# Altium schematic symbol library Copy of IC_BASE16PIN.SchLib: 1 symbol
Pins are listed as number, name and electrical type; pins without a type are passive.

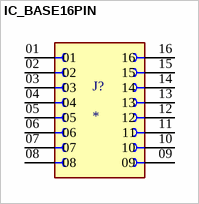
[diagram p0: symbol IC_BASE16PIN]

## IC_BASE16PIN
designator J?
DIP Socket, Stamped and Formed; MF: Amphenol ICC (FCI); MP: DILB16P-223TLF; Check_prices: https://www.snapeda.com/parts/DILB16P-223TLF/Amphenol+FCI/view-part/?ref=eda; Package: None; Price: None; Value: *; SnapEDA_Link: https://www.snapeda.com/parts/DILB16P-223TLF/Amphenol+FCI/view-part/?ref=snap; Availability: In Stock
footprint AMPHENOL_DILB16P-223TLF
pins: 01, 02, 03, 04, 05, 06, 07, 08, 09, 10, 11, 12, 13, 14, 15, 16